# Altium footprint library UP-ROBOT Parts(2012-07-12).PcbLib: 9 footprints
Each footprint in its own frame and in the unit in brackets; x right, y up, seen from the top. Pads: shape width x height; smd on the part's side, far side on the other; paste and mask are expansions set on the pad; w line width, h text height; cw(c..) or ccw(c..) is an arc to the next point about the centre after c.
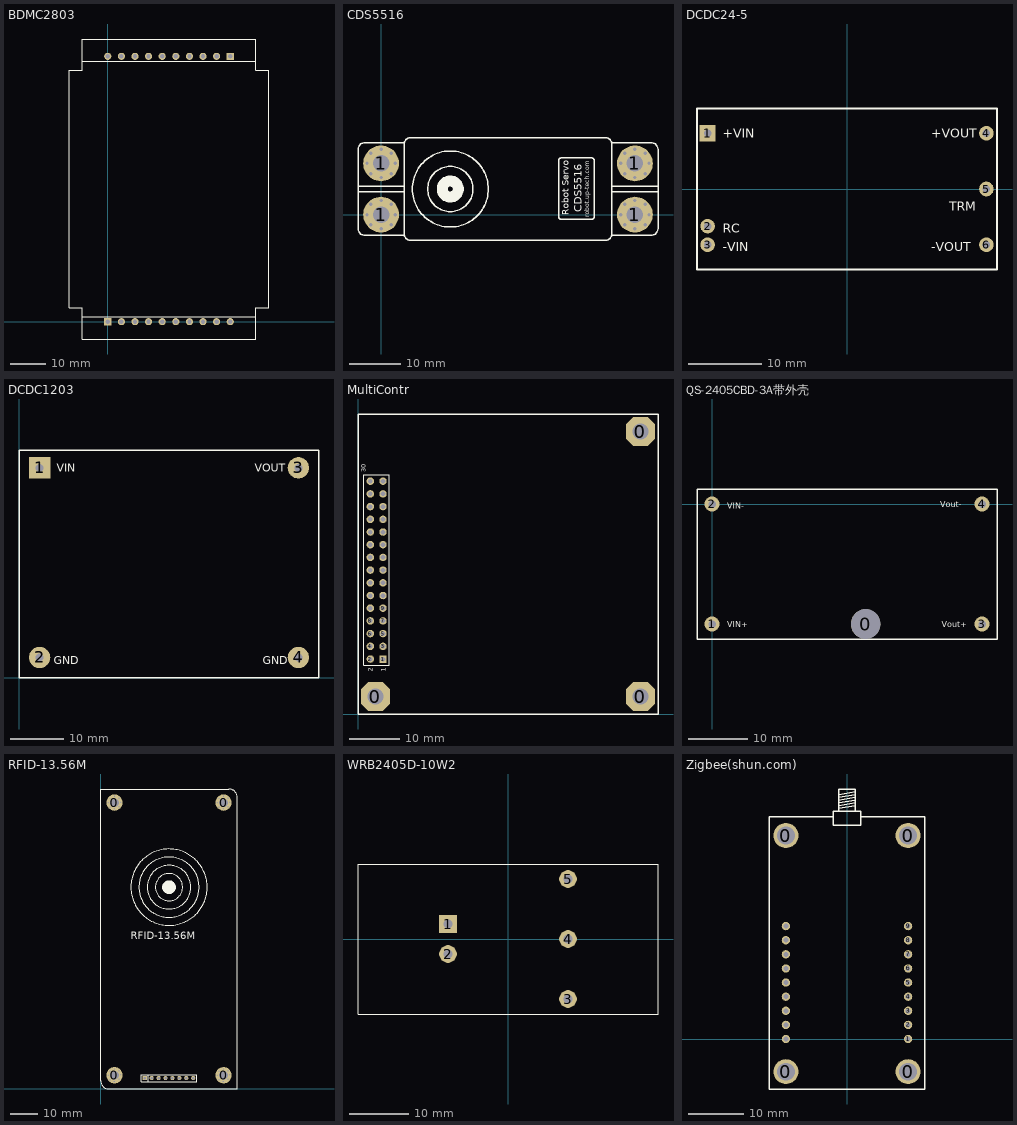
[diagram p0: the footprints below, top view; thin cyan lines are the x and y axes]

## BDMC2803 [mm]
pads (20):
  rect 2x2 hole 1.2: 1(-0.051,0.002) 20(34.239,74.302)
  round 2 hole 1.2: 2(3.759,0.002) 3(7.569,0.002) 4(11.379,0.002) 5(15.189,0.002) 6(18.999,0.002) 7(22.809,0.002) 8(26.619,0.002) 9(30.429,0.002) 10(34.239,0.002) 11(-0.051,74.302) 12(3.759,74.302) 13(7.569,74.302) 14(11.379,74.302) 15(15.189,74.302) 16(18.999,74.302) 17(22.809,74.302) 18(26.619,74.302) 19(30.429,74.302)
Top Overlay:
  lines w0.2: -10.906,6.372 -10.906,15.152 ; -10.906,6.552 -10.906,3.902 -9.706,3.902 ; -10.906,14.702 -10.906,55.152 -10.906,67.932 ; -10.906,67.752 -10.906,70.402 -9.706,70.402 -7.156,70.402 -7.156,72.952 ; -7.156,-4.775 -7.156,1.352 ; -7.156,-3.148 -7.156,-4.848 -6.256,-4.848 40.444,-4.848 41.344,-4.848 41.344,-3.148 ; -7.156,77.452 -7.156,79.152 -6.256,79.152 40.444,79.152 41.344,79.152 41.344,77.452 ; -7.156,78.252 -7.156,72.952 ; 41.344,-4.75 41.344,1.352 ; 45.094,6.552 45.094,3.902 43.894,3.902 ; 45.094,54.752 45.094,67.932 45.094,59.152 ; 45.094,55.152 45.094,15.152 45.094,6.372 45.094,19.152 45.094,59.602 ; 45.094,67.752 45.094,70.402 43.894,70.402 ; -9.706,3.902 -7.156,3.902 ; -9.706,3.902 -7.156,3.902 ; -7.156,-3.948 -7.156,1.352 ; -7.156,-3.948 -7.156,1.352 ; -7.156,-3.948 -7.156,1.352 ; -7.156,1.352 -7.156,3.902 ; -7.156,1.352 -7.156,3.902 ; -7.156,1.352 41.344,1.352 ; -7.156,72.952 -7.156,79.045 41.344,79.045 41.344,72.952 ; -7.156,72.952 41.344,72.952 ; 41.344,1.352 41.344,-3.948 41.344,1.352 ; 41.344,1.352 41.344,3.902 ; 41.344,1.352 41.344,3.902 ; 41.344,3.902 43.894,3.902 ; 41.344,3.902 43.894,3.902 ; 41.344,70.402 41.344,72.952 ; 41.344,70.402 43.894,70.402 ; 41.344,70.402 43.894,70.402 ; 41.344,70.402 41.344,72.952 ; 41.344,72.952 41.344,78.252 41.344,72.952

## CDS5516 [mil]
pads (36):
  round 40 hole 26: 1(-108.27,0) 1(-108.27,393.7) 1(-78.74,-78.74) 1(-78.74,78.74) 1(-78.74,314.96) 1(-78.74,472.44) 1(0,-108.27) 1(0,108.27) 1(0,285.43) 1(0,501.97) 1(78.74,-78.74) 1(78.74,78.74) 1(78.74,314.96) 1(78.74,472.44) 1(108.27,0) 1(108.27,393.7) 1(1840.55,0) 1(1840.55,393.7) 1(1870.08,-78.74) 1(1870.08,78.74) 1(1870.08,314.96) 1(1870.08,472.44) 1(1948.82,-108.27) 1(1948.82,108.27) 1(1948.82,285.43) 1(1948.82,501.97) 1(2027.56,-78.74) 1(2027.56,78.74) 1(2027.56,314.96) 1(2027.56,472.44) 1(2057.09,0) 1(2057.09,393.7)
  round 275.59 hole 125.98: 1(0,0) 1(0,393.7) 1(1948.82,0) 1(1948.82,393.7)
Top Overlay:
  circle w10: c531.5,196.85 r291.67
  circle w78.74: c531.5,196.85 r59.06
  circle w10: c531.5,196.85 r98.43
  circle w10: c531.5,196.85 r173.56
  lines w10: -177.17,216.54 177.17,216.54 ; -173.23,175 175,175 ; 177.17,-157.48 -127.17,-157.48 cw(c-127.17,-107.48) -177.17,-107.48 -177.17,501.18 cw(c-127.17,501.18) -127.17,551.18 177.17,551.18 ; 1771.65,-157.48 2075.98,-157.48 ccw(c2075.98,-107.48) 2125.98,-107.48 2125.98,501.18 ccw(c2075.98,501.18) 2075.98,551.18 1771.65,551.18 ; 1771.65,177.17 2125.98,177.17 ; 1771.65,216.54 2125.98,216.54 ; 177.17,-146.85 ccw(c227.17,-146.85) 227.17,-196.85 1721.65,-196.85 ccw(c1721.65,-146.85) 1771.65,-146.85 1771.65,540.55 ccw(c1721.65,540.55) 1721.65,590.55 885.83,590.55 227.17,590.55 ccw(c227.17,540.55) 177.17,540.55 177.17,-146.85 ; 1365,-20 ccw(c1380,-20) 1380,-35 1620,-35 ccw(c1620,-20) 1635,-20 1635,420 ccw(c1620,420) 1620,435 1495,435 1380,435 ccw(c1380,420) 1365,420 1365,-20
  text "robot.up-tech.com" at 1600,-20 h35
  text "CDS5516" at 1540,20 h60
  text "Robot Servo" at 1440,-5 h50

## DCDC24-5 [mm]
pads (6):
  rect 2.2x2.2 hole 1: 1(-19.05,7.62)
  round 2 hole 1: 2(-19.05,-5.08) 3(-19.05,-7.62) 4(19.05,7.62) 5(19.05,0) 6(19.05,-7.62)
Top Overlay:
  lines w0.254: -20.5,-11 -20.5,11 20.5,11 20.5,-11 -20.5,-11
  text "TRM" at 14,-3 h1.27
  text "+VOUT" at 11.5,7 h1.27
  text "-VOUT" at 11.5,-8.5 h1.27
  text "RC" at -17,-6 h1.27
  text "-VIN" at -17,-8.5 h1.27
  text "+VIN" at -17,7 h1.27

## DCDC1203 [mm]
pads (4):
  rect 4x4 hole 1.5: 1(3.85,39.2)
  round 4 hole 1.5: 2(3.85,3.8) 3(52.15,39.2) 4(52.15,3.8)
Top Overlay:
  lines w0.254: 0,0 56,0 56,42.5 0,42.5 0,0
  text "VOUT" at 44,38.5 h1.52
  text "GND" at 45.5,2.5 h1.52
  text "GND" at 6.5,2.5 h1.52
  text "VIN" at 7,38.5 h1.52
3D body: height 12.61, standoff -0.08, extent -0.23,0 56,43

## MultiContr [mm]
pads (33):
  oct 5.8x5.8 hole 3.2: 0(3.5,3.5) 0(56.5,3.5) 0(56.5,56.5)
  rect 1.5x1.5 hole 0.9: 1(5,11)
  round 1.5 hole 0.9: 2(2.46,11) 3(5,13.54) 4(2.46,13.54) 5(5,16.08) 6(2.46,16.08) 7(5,18.62) 8(2.46,18.62) 9(5,21.16) 10(2.46,21.16) 11(5,23.7) 12(2.46,23.7) 13(5,26.24) 14(2.46,26.24) 15(5,28.78) 16(2.46,28.78) 17(5,31.32) 18(2.46,31.32) 19(5,33.86) 20(2.46,33.86) 21(5,36.4) 22(2.46,36.4) 23(5,38.94) 24(2.46,38.94) 25(5,41.48) 26(2.46,41.48) 27(5,44.02) 28(2.46,44.02) 29(5,46.56) 30(2.46,46.56)
Top Overlay:
  lines w0.2: 1.19,9.73 1.19,47.83 6.27,47.83 6.27,9.73 1.19,9.73
  lines w0.254: 0,0 60,0 60,60 0,60 0,0
  text "1" at 5.508,8.46 h0.91
  text "2" at 2.968,8.46 h0.91
  text "30" at 1.6,48.3 h0.91

## QS-2405CBD-3A带外壳 [mm]
pads (5):
  round 5 hole 5: 0(26,-20.32)
  round 2.54 hole 1.27: 1(0,-20.32) 2(0,0) 3(45.72,-20.32) 4(45.72,0)
Top Overlay:
  lines w0.254: -2.54,-22.86 -2.54,2.54 48.26,2.54 48.26,-22.86 -2.54,-22.86
  text "Vout+" at 38.862,-20.828 h1.02
  text "Vout-" at 38.608,-0.508 h1.02
  text "VIN-" at 2.54,-0.762 h1.02
  text "VIN+" at 2.54,-20.828 h1.02

## RFID-13.56M [mil]
pads (44):
  round 40 hole 19.68: 0(105.4,196.78) 0(105.4,4133.79) 0(132.4,132.78) 0(132.4,257.78) 0(132.4,4069.79) 0(132.4,4194.79) 0(192.4,107.78) 0(192.4,4044.79) 0(197.4,287.78) 0(197.4,4224.79) 0(262.4,137.78) 0(262.4,262.78) 0(262.4,4074.79) 0(262.4,4199.79) 0(287.4,202.78) 0(287.4,4139.79) 0(1680.2,196.78) 0(1680.2,4133.79) 0(1707.2,132.78) 0(1707.2,257.78) 0(1707.2,4069.79) 0(1707.2,4194.79) 0(1767.2,107.78) 0(1767.2,4044.79) 0(1772.2,287.78) 0(1772.2,4224.79) 0(1837.2,137.78) 0(1837.2,262.78) 0(1837.2,4074.79) 0(1837.2,4199.79) 0(1862.2,202.78) 0(1862.2,4139.79)
  round 236.22 hole 125.98: 0(197.4,197.78) 0(197.4,4134.79) 0(1772.2,197.78) 0(1772.2,4134.79)
  rect 60x60 hole 36: 1(634.25,157.48)
  round 60 hole 36: 2(734.25,157.48) 3(834.25,157.48) 4(934.25,157.48) 5(1034.25,157.48) 6(1134.25,157.48) 7(1234.25,157.48) 8(1334.25,157.48)
Top Overlay:
  circle w15: c984.8,2914.31 r551.18
  circle w15: c984.8,2914.31 r434.86
  circle w15: c984.8,2914.31 r314.96
  circle w15: c984.8,2914.31 r196.85
  circle w118.11: c984.8,2914.31 r39.37
  lines w10: 684.25,107.48 684.25,207.48 ; 584.25,107.48 1384.25,107.48 1384.25,207.48 584.25,207.48 584.25,107.48
  lines w15: 0,116 0,394 0,4330.98 ; -0.02,117.61 ccw(c118.09,117.61) 118.09,-0.5 ; 0.55,4331.64 1850,4331.64 ; 116,0 1969,0 1969,394 1969,1574.99 1969,4212 ; 1850.91,4330.5 cw(c1850.91,4212.39) 1969.02,4212.39
  text "RFID-13.56M" at 433.62,2126.91 h180

## WRB2405D-10W2 [mm]
pads (5):
  rect 3x3 hole 1.5: 1(-10.16,2.54)
  round 3 hole 1.5: 2(-10.16,-2.54) 3(10.16,-10.16) 4(10.16,0) 5(10.16,10.16)
Top Overlay:
  lines w0.203: -25.4,-12.7 -25.4,12.7 25.4,12.7 25.4,-12.7 0,-12.7 -25.4,-12.7

## Zigbee(shun.com) [mm] "zigbee com use in multiflex"
height 0.762
pads (22):
  round 4.5 hole 3.2: 0(-11,-5.88) 0(-11,36.62) 0(11,-5.88) 0(11,36.62)
  round 1.5 hole 0.9: 1(11,0) 2(11,2.54) 3(11,5.08) 4(11,7.62) 5(11,10.16) 6(11,12.7) 7(11,15.24) 8(11,17.78) 9(11,20.32) 10(-11,0) 11(-11,2.54) 12(-11,5.08) 13(-11,7.62) 14(-11,10.16) 15(-11,12.7) 16(-11,15.24) 17(-11,17.78) 18(-11,20.32)
Top Overlay:
  lines w0.254: -2.5,40 -14,40 -14,-9 0,-9 14,-9 14,40 2.5,40 ; -1.5,41 -1.5,45 1.5,45 1.5,41 ; -1.5,41.5 1.5,42 ; -1.5,42 1.5,42.5 ; -1.5,42.5 1.5,43 ; -1.5,43 1.5,43.5 ; -1.5,43.5 1.5,44 ; -1.5,44 1.5,44.5 ; -2.5,38.5 -2.5,41 2.5,41 2.5,38.5 -2.5,38.5